# EAGLE library part REG_TPS61221 (library akita)
TI's TPS61220/1/2, boost DC/DC
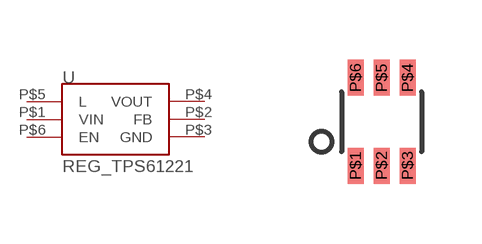
[diagram p147: symbol with the pads of SC70-6; footprint SC70-6]

Designator prefix U

## REG_TPS61221  [SC70-6]
P$1  VIN
P$2  FB
P$3  GND
P$4  VOUT
P$5  L
P$6  EN

## Footprint SC70-6 (pad centres in mm)
SC70, 6pin, 0.65mm pitch
smd 0.4 x 0.9: P$1 -0.65,-1.1; P$2 0,-1.1; P$3 0.65,-1.1; P$4 0.65,1.1; P$5 0,1.1; P$6 -0.65,1.1